# Altium footprint library G6E-134P-ST-US-DC3.PcbLib: 1 footprints
Each footprint in its own frame and in the unit in brackets; x right, y up, seen from the top. Pads: shape width x height; smd on the part's side, far side on the other; paste and mask are expansions set on the pad; w line width, h text height; cw(c..) or ccw(c..) is an arc to the next point about the centre after c.
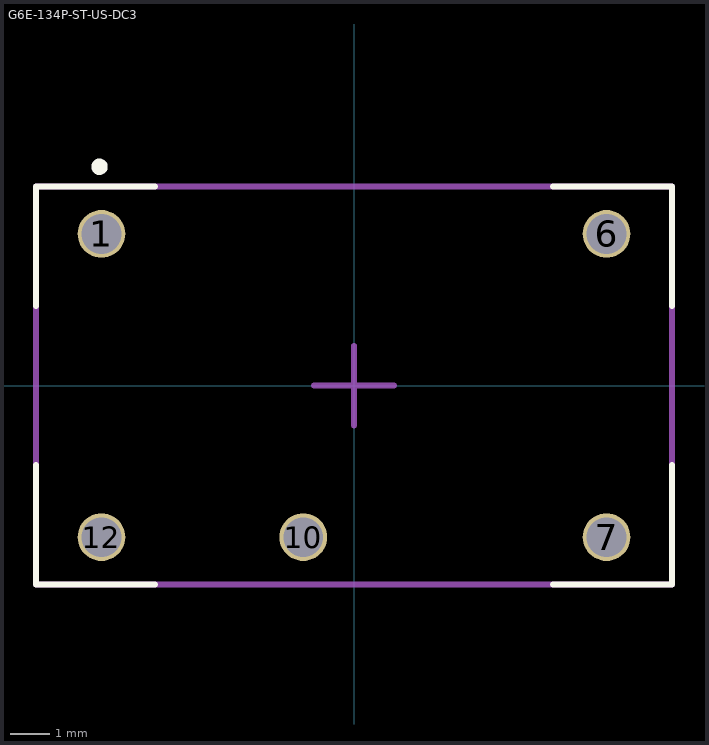
[diagram p0: the footprint, top view; thin cyan lines are the x and y axes]

## G6E-134P-ST-US-DC3 [mm]
pads (5):
  round 1.2 / inner round 1.524 / far side round 1.2 hole 1 mask+0: 1(-6.35,3.813) 6(6.35,3.813) 7(6.35,-3.812) 10(-1.275,-3.812) 12(-6.35,-3.812)
Top Overlay:
  circle w0.254: c-6.4,5.5 r0.079
  lines w0.15: -8,-2 -8,-5 -5,-5 ; -8,2 -8,5 -5,5 ; 5,-5 8,-5 8,-2 ; 5,5 8,5 8,2
Mechanical 13:
  lines w0.15: -8,-5 8,-5 8,5 -8,5 -8,-5
Mechanical 15:
  lines w0.15: -1,0 0,0 ; 0,0 0,1 0,0 ; 0,0 1,0 0,0 ; 0,0 0,-1 0,0
3D body: height 8, standoff 0, extent -8,-5 8,5